# Altium schematic symbol library SamacSys.SchLib: 9 symbols
Pins are listed as number, name and electrical type; pins without a type are passive.

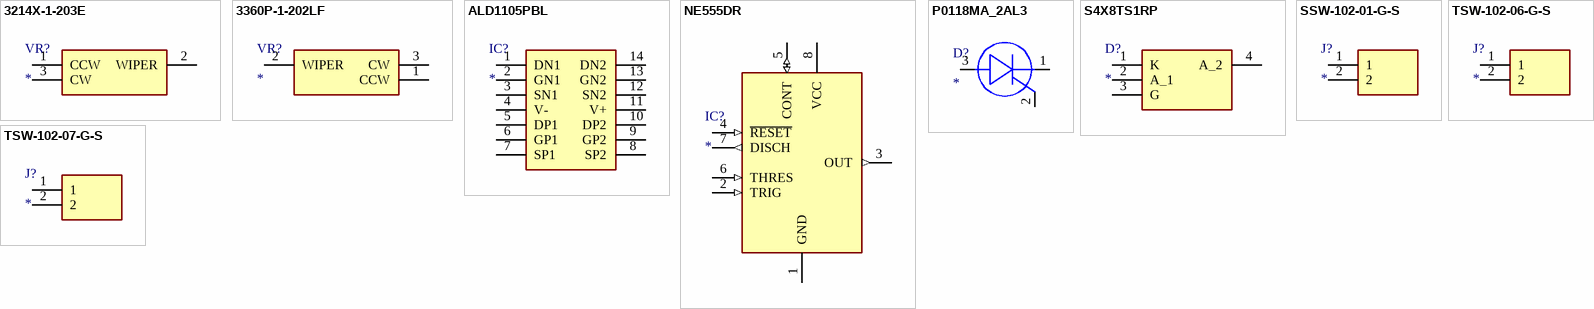
[diagram p0: symbols 3214X-1-203E to TSW-102-07-G-S]

## 3214X-1-203E
designator VR?
Variable Resistor; Manufacturer_Name: Bourns; Manufacturer_Part_Number: 3214X-1-203E; Datasheet Link: https://www.bourns.com/pdfs/3214.pdf; Height: 5.3mm; Mouser Part Number: 652-3214X-1-203E; Mouser Price/Stock: https://www.mouser.co.uk/ProductDetail/Bourns/3214X-1-203E?qs=GbiU%252BivmtKCiZgVfjOTq7A%3D%3D; Arrow Part Number: 3214X-1-203E; Arrow Price/Stock: https://www.arrow.com/en/products/3214x-1-203e/bourns?region=nac
footprint 3214X1203E
pins: 1 CCW, 2 WIPER, 3 CW

## 3360P-1-202LF
designator VR?
Variable Resistor; Manufacturer_Name: Bourns; Manufacturer_Part_Number: 3360P-1-202LF; Datasheet Link: https://componentsearchengine.com/Datasheets/1/3360P-1-202LF.pdf; Height: 18.42mm; Mouser Part Number: 652-3360P-1-202LF; Mouser Price/Stock: https://www.mouser.co.uk/ProductDetail/Bourns/3360P-1-202LF?qs=Bby4eJWuOvs2XcrxhfHeaQ%3D%3D
footprint 3360P1202LF
pins: 1 CCW, 2 WIPER, 3 CW

## ALD1105PBL
designator IC?
Integrated Circuit; Manufacturer_Name: Advanced Linear Devices Inc.; Manufacturer_Part_Number: ALD1105PBL; Datasheet Link: https://www.mouser.es/datasheet/2/8/ALD1105-963896.pdf; Height: 5.08mm; Mouser Part Number: 585-ALD1105PBL; Mouser Price/Stock: https://www.mouser.co.uk/ProductDetail/Advanced-Linear-Devices/ALD1105PBL?qs=Du6x3Vjr3lUq%2FSLBVb98Ng%3D%3D
footprint DIP762W51P254L1828H508Q14N
pins: 1 DN1, 2 GN1, 3 SN1, 4 V-, 5 DP1, 6 GP1, 7 SP1, 8 SP2, 9 GP2, 10 DP2, 11 V+, 12 SN2, 13 GN2, 14 DN2

## NE555DR
designator IC?
Integrated Circuit; Manufacturer_Name: Texas Instruments; Manufacturer_Part_Number: NE555DR; Datasheet Link: http://www.ti.com/lit/ds/symlink/ne555.pdf; Height: 1.75mm; Mouser Part Number: 595-NE555DR; Mouser Price/Stock: https://www.mouser.com/Search/Refine.aspx?Keyword=595-NE555DR; RS Part Number: 1218414; RS Price/Stock: http://uk.rs-online.com/web/p/products/1218414
footprint SOIC127P600X175-8N
pins: 1 GND (power), 2 TRIG (in), 3 OUT (out), 4 ~{RESET} (in), 5 CONT (io), 6 THRES (in), 7 DISCH (out), 8 VCC (power)

## P0118MA_2AL3
designator D?
SCR; Manufacturer_Name: STMicroelectronics; Manufacturer_Part_Number: P0118MA 2AL3; Datasheet Link: https://www.st.com/resource/en/datasheet/p0111da.pdf; Height: 4.95mm; Mouser Part Number: 511-P0118MA2AL3; Mouser Price/Stock: https://www.mouser.co.uk/ProductDetail/STMicroelectronics/P0118MA-2AL3?qs=8g15oU%252BBBJ8Tzu5vi19VdQ%3D%3D
footprint TS1107A1AP
pins: 1 K, 2 G, 3 A

## S4X8TS1RP
designator D?
Thyristor; Manufacturer_Name: LITTELFUSE; Manufacturer_Part_Number: S4X8TS1RP; Datasheet Link: https://www.littelfuse.com/media?resourcetype=datasheets&itemid=33d0d5e7-46fd-406d-80ae-f94899e78783&filename=littelfuse-thyristor-sxx8xsx-datasheet; Height: 1.93mm; Mouser Part Number: 576-S4X8TS1RP; Mouser Price/Stock: https://www.mouser.com/Search/Refine.aspx?Keyword=576-S4X8TS1RP
footprint S4X8TS1RP
pins: 1 K, 2 A_1, 3 G, 4 A_2

## SSW-102-01-G-S
designator J?
Connector; Manufacturer_Name: SAMTEC; Manufacturer_Part_Number: SSW-102-01-G-S; Datasheet Link: http://suddendocs.samtec.com/prints/ssw-1xx-xx-xxx-x-xx-xxx-xx-mkt.pdf; Height: 8.51mm; Mouser Part Number: 200-SSW10201GS; Mouser Price/Stock: https://www.mouser.co.uk/ProductDetail/Samtec/SSW-102-01-G-S?qs=92ilVni64gwMaw8Iglb9kA%3D%3D; Arrow Part Number: SSW-102-01-G-S; Arrow Price/Stock: https://www.arrow.com/en/products/ssw-102-01-g-s/samtec?region=europe
footprint SSW-102-XX-YYY-S
pins: 1, 2

## TSW-102-06-G-S
designator J?
Connector; Manufacturer_Name: SAMTEC; Manufacturer_Part_Number: TSW-102-06-G-S; Datasheet Link: http://suddendocs.samtec.com/prints/tsw-xxx-xx-xxx-x-xx-xxx-mkt.pdf; Mouser Part Number: 200-TSW10206GS; Mouser Price/Stock: https://www.mouser.co.uk/ProductDetail/Samtec/TSW-102-06-G-S?qs=rU5fayqh%252BE0HKeXhXexpyg%3D%3D; Arrow Part Number: TSW-102-06-G-S; Arrow Price/Stock: https://www.arrow.com/en/products/tsw-102-06-g-s/samtec?region=europe
footprint TSW-102-XX-YY-S
pins: 1, 2

## TSW-102-07-G-S
designator J?
Connector; Manufacturer_Name: SAMTEC; Manufacturer_Part_Number: TSW-102-07-G-S; Datasheet Link: http://suddendocs.samtec.com/prints/tsw-xxx-xx-xxx-x-xx-xxx-mkt.pdf; Mouser Part Number: 200-TSW10207GS; Mouser Price/Stock: https://www.mouser.co.uk/ProductDetail/Samtec/TSW-102-07-G-S?qs=iT52DjcXudsNPhlNCDp8vw%3D%3D; Arrow Part Number: TSW-102-07-G-S; Arrow Price/Stock: https://www.arrow.com/en/products/tsw-102-07-g-s/samtec?region=europe
footprint TSW-102-XX-YY-S
pins: 1, 2